# Altium footprint library Minifit.PcbLib: 27 footprints (part 1 of 2)
Each footprint in its own frame and in the unit in brackets; x right, y up, seen from the top. Pads: shape width x height; smd on the part's side, far side on the other; paste and mask are expansions set on the pad; w line width, h text height; cw(c..) or ccw(c..) is an arc to the next point about the centre after c.
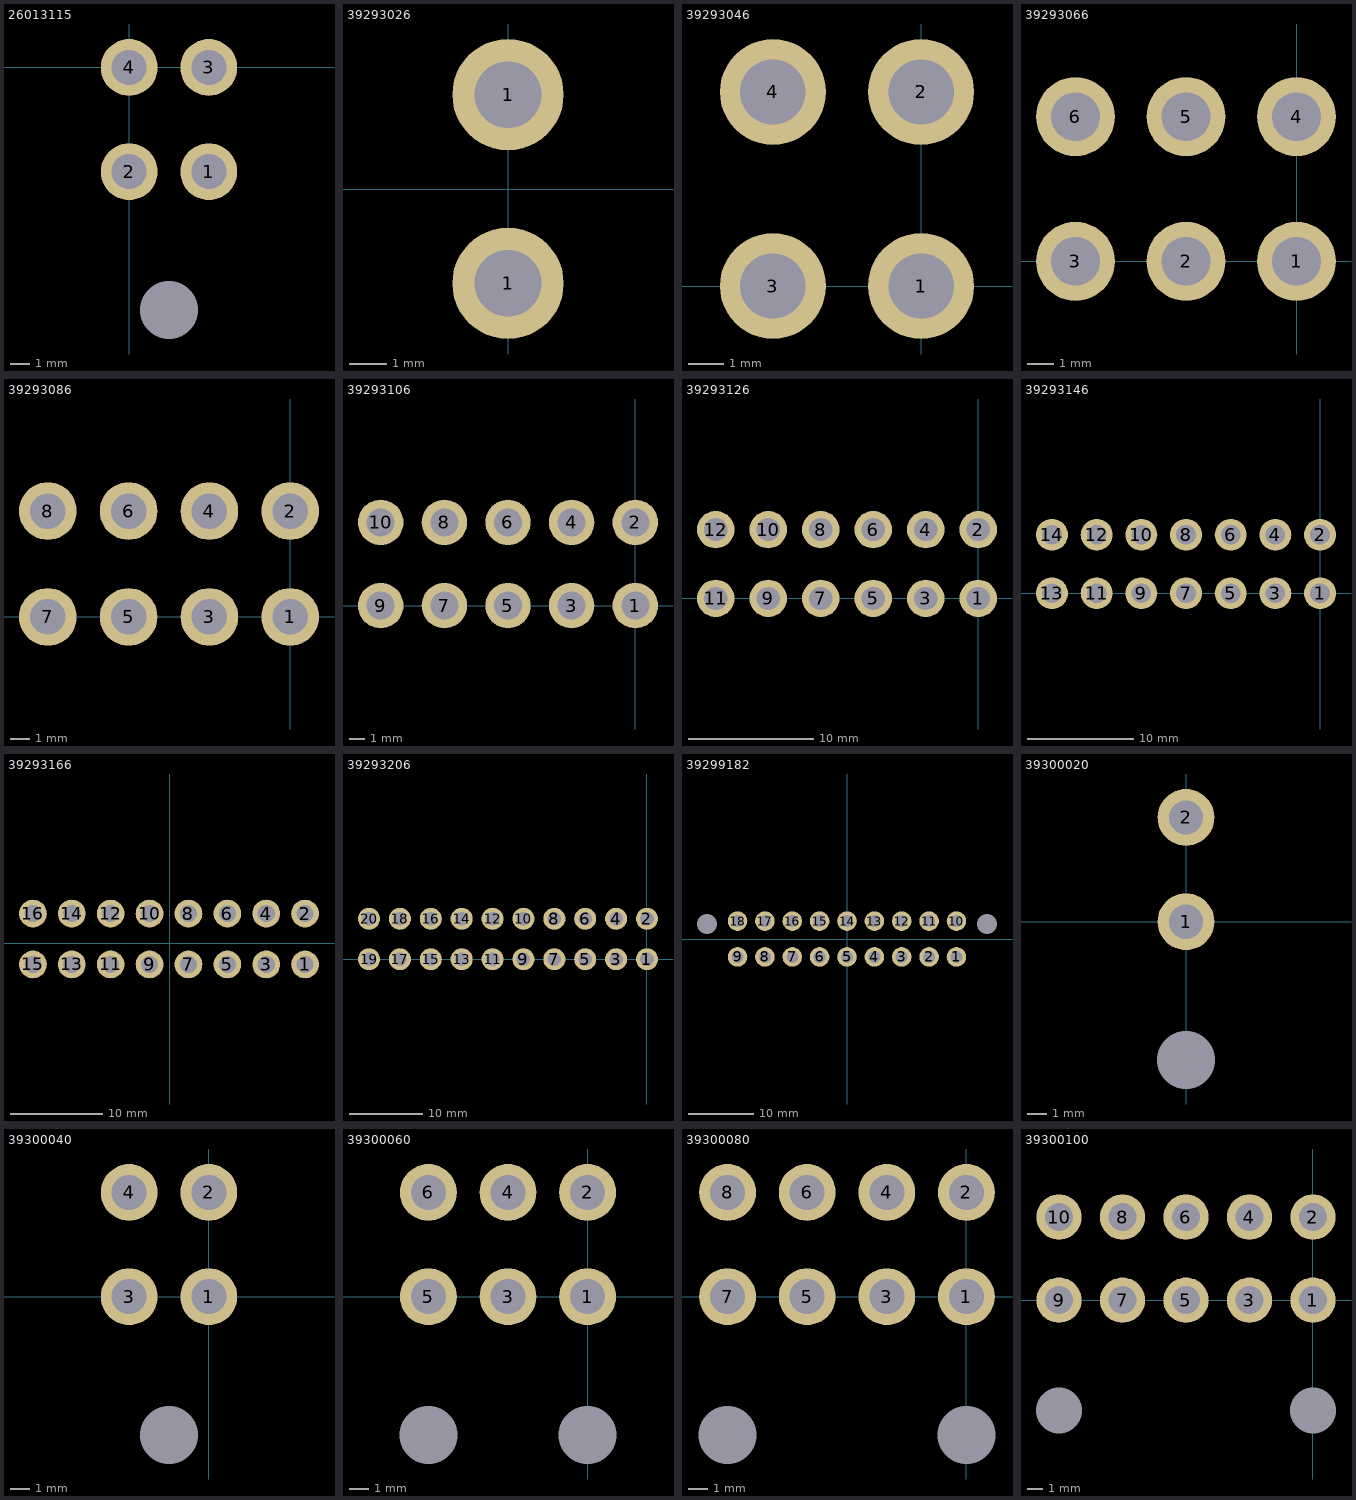
[diagram p0: the footprints below, top view; thin cyan lines are the x and y axes]

## 26013115 [mm]
pads (5):
  round 3 hole 1.85: 1(4.2,-5.5) 2(0,-5.5) 3(4.2,0) 4(0,0)
  round 1.524 hole 3.05: ""(2.1,-12.8)
3D body "026013115.stp": height 11.4, standoff -3.6, extent -2.7,-19.367 7.3,0.567

## 39293026 [mm]
pads (2):
  round 3 hole 1.8: 1(0,-2.54) 1(0,2.54)
3D body "039293026.stp": height 12.8, standoff -3.5, extent -3,-5.9 3.2,5.1

## 39293046 [mm]
pads (4):
  round 3 hole 1.85: 1(0,0) 2(0,5.5) 3(-4.2,0) 4(-4.2,5.5)
3D body "039293046.stp": height 3.5, standoff -12.8, extent -7.3,-2.1 3.1,8.9

## 39293066 [mm]
pads (6):
  round 3 hole 1.85: 1(0,0) 2(-4.2,0) 3(-8.4,0) 4(0,5.5) 5(-4.2,5.5) 6(-8.4,5.5)
3D body "039281063.stp": height 12.8, standoff -3.5, extent -11.475,-2.3 3.125,8.7

## 39293086 [mm]
pads (8):
  round 3 hole 1.85: 1(0,0) 2(0,5.5) 3(-4.2,0) 4(-4.2,5.5) 5(-8.4,0) 6(-8.4,5.5) 7(-12.6,0) 8(-12.6,5.5)
3D body "039293086.stp": height 2.99, standoff -13.31, extent -15.7,-2.2 3.1,8.8

## 39293106 [mm]
pads (10):
  round 3 hole 1.85: 1(0,0) 2(0,5.5) 3(-4.2,0) 4(-4.2,5.5) 5(-8.4,0) 6(-8.4,5.5) 7(-12.6,0) 8(-12.6,5.5) 9(-16.8,0) 10(-16.8,5.5)
3D body "039293106.stp": height 2.99, standoff -13.31, extent -20,-2.05 3,8.95

## 39293126 [mm]
pads (12):
  round 3 hole 1.85: 1(0,0) 2(0,5.5) 3(-4.2,0) 4(-4.2,5.5) 5(-8.4,0) 6(-8.4,5.5) 7(-12.6,0) 8(-12.6,5.5) 9(-16.8,0) 10(-16.8,5.5) 11(-21,0) 12(-21,5.5)
3D body "039293126.stp": height 2.99, standoff -13.31, extent -24.1,-2.3 3.1,8.7

## 39293146 [mm]
pads (14):
  round 3 hole 1.85: 1(0,0) 2(0,5.5) 3(-4.2,0) 4(-4.2,5.5) 5(-8.4,0) 6(-8.4,5.5) 7(-12.6,0) 8(-12.6,5.5) 9(-16.8,0) 10(-16.8,5.5) 11(-21,0) 12(-21,5.5) 13(-25.2,0) 14(-25.2,5.5)
3D body "039293146.stp": height 2.99, standoff -13.31, extent -28.4,-3.3 3,7.7

## 39293166 [mm]
pads (16):
  round 3 hole 1.85: 1(14.6,-2.3) 2(14.6,3.2) 3(10.4,-2.3) 4(10.4,3.2) 5(6.2,-2.3) 6(6.2,3.2) 7(2,-2.3) 8(2,3.2) 9(-2.2,-2.3) 10(-2.2,3.2) 11(-6.4,-2.3) 12(-6.4,3.2) 13(-10.6,-2.3) 14(-10.6,3.2) 15(-14.8,-2.3) 16(-14.8,3.2)
3D body "039293166.stp": height 12.8, standoff -3.5, extent -17.9,-4.6 17.7,6.4

## 39293206 [mm]
pads (20):
  round 3 hole 1.85: 1(0,0) 2(0,5.5) 3(-4.2,0) 4(-4.2,5.5) 5(-8.4,0) 6(-8.4,5.5) 7(-12.6,0) 8(-12.6,5.5) 9(-16.8,0) 10(-16.8,5.5) 11(-21,0) 12(-21,5.5) 13(-25.2,0) 14(-25.2,5.5) 15(-29.4,0) 16(-29.4,5.5) 17(-33.6,0) 18(-33.6,5.5) 19(-37.8,0) 20(-37.8,5.5)
3D body "039293206.stp": height 2.99, standoff -13.31, extent -40.9,-2.2 3.1,8.8

## 39299182 [mm] "Mini-Fit VERT 9x2"
pads (20):
  round 3 hole 1.85: 1(16.8,-2.75) 2(12.6,-2.75) 3(8.4,-2.75) 4(4.2,-2.75) 5(0,-2.75) 6(-4.2,-2.75) 7(-8.4,-2.75) 8(-12.6,-2.75) 9(-16.8,-2.75) 10(16.8,2.75) 11(12.6,2.75) 12(8.4,2.75) 13(4.2,2.75) 14(0,2.75) 15(-4.2,2.75) 16(-8.4,2.75) 17(-12.6,2.75) 18(-16.8,2.75)
  round 0 hole 3.05 unplated: PEG(-21.5,2.29) PEG(21.5,2.29)
3D body "039299182.stp": height 12.8, standoff -3.5, extent -22.953,-5 22.825,6

## 39300020 [mm]
pads (3):
  round 3 hole 1.8: 1(0,0) 2(0,5.5)
  round 1.524 hole 3.05: ""(0,-7.3)
3D body "039301022.stp": height 11.4, standoff -3.6, extent -2.7,-13.967 3.1,5.967

## 39300040 [mm]
pads (5):
  round 3 hole 1.85: 1(0,0) 2(0,5.5) 3(-4.2,0) 4(-4.2,5.5)
  round 1.524 hole 3.05: ""(-2.1,-7.3)
3D body "026013115.stp": height 11.4, standoff -3.6, extent -6.9,-13.867 3.1,6.067

## 39300060 [mm]
pads (8):
  round 3 hole 1.85: 1(0,0) 2(0,5.5) 3(-4.2,0) 4(-4.2,5.5) 5(-8.4,0) 6(-8.4,5.5)
  round 1.524 hole 3.05: ""(-8.4,-7.3) ""(0,-7.3)
3D body "039300060.stp": height 11.4, standoff -3.6, extent -11.1,-13.867 3.1,6.067

## 39300080 [mm]
pads (10):
  round 3 hole 1.85: 1(0,0) 2(0,5.5) 3(-4.2,0) 4(-4.2,5.5) 5(-8.4,0) 6(-8.4,5.5) 7(-12.6,0) 8(-12.6,5.5)
  round 1.524 hole 3.05: ""(-12.6,-7.3) ""(0,-7.3)
3D body "039300080.stp": height 11.4, standoff -3.6, extent -15.3,-13.9 3.1,6.035

## 39300100 [mm]
pads (12):
  round 3 hole 1.85: 1(0,0) 2(0,5.5) 3(-4.2,0) 4(-4.2,5.5) 5(-8.4,0) 6(-8.4,5.5) 7(-12.6,0) 8(-12.6,5.5) 9(-16.8,0) 10(-16.8,5.5)
  round 1.524 hole 3.05: ""(-16.8,-7.3) ""(0,-7.3)
3D body "039300100.stp": height 11.4, standoff -3.6, extent -19.5,-13.9 3.1,6.035